# Altium schematic symbol library IlamStuff.SchLib: 12 symbols
Pins are listed as number, name and electrical type; pins without a type are passive.

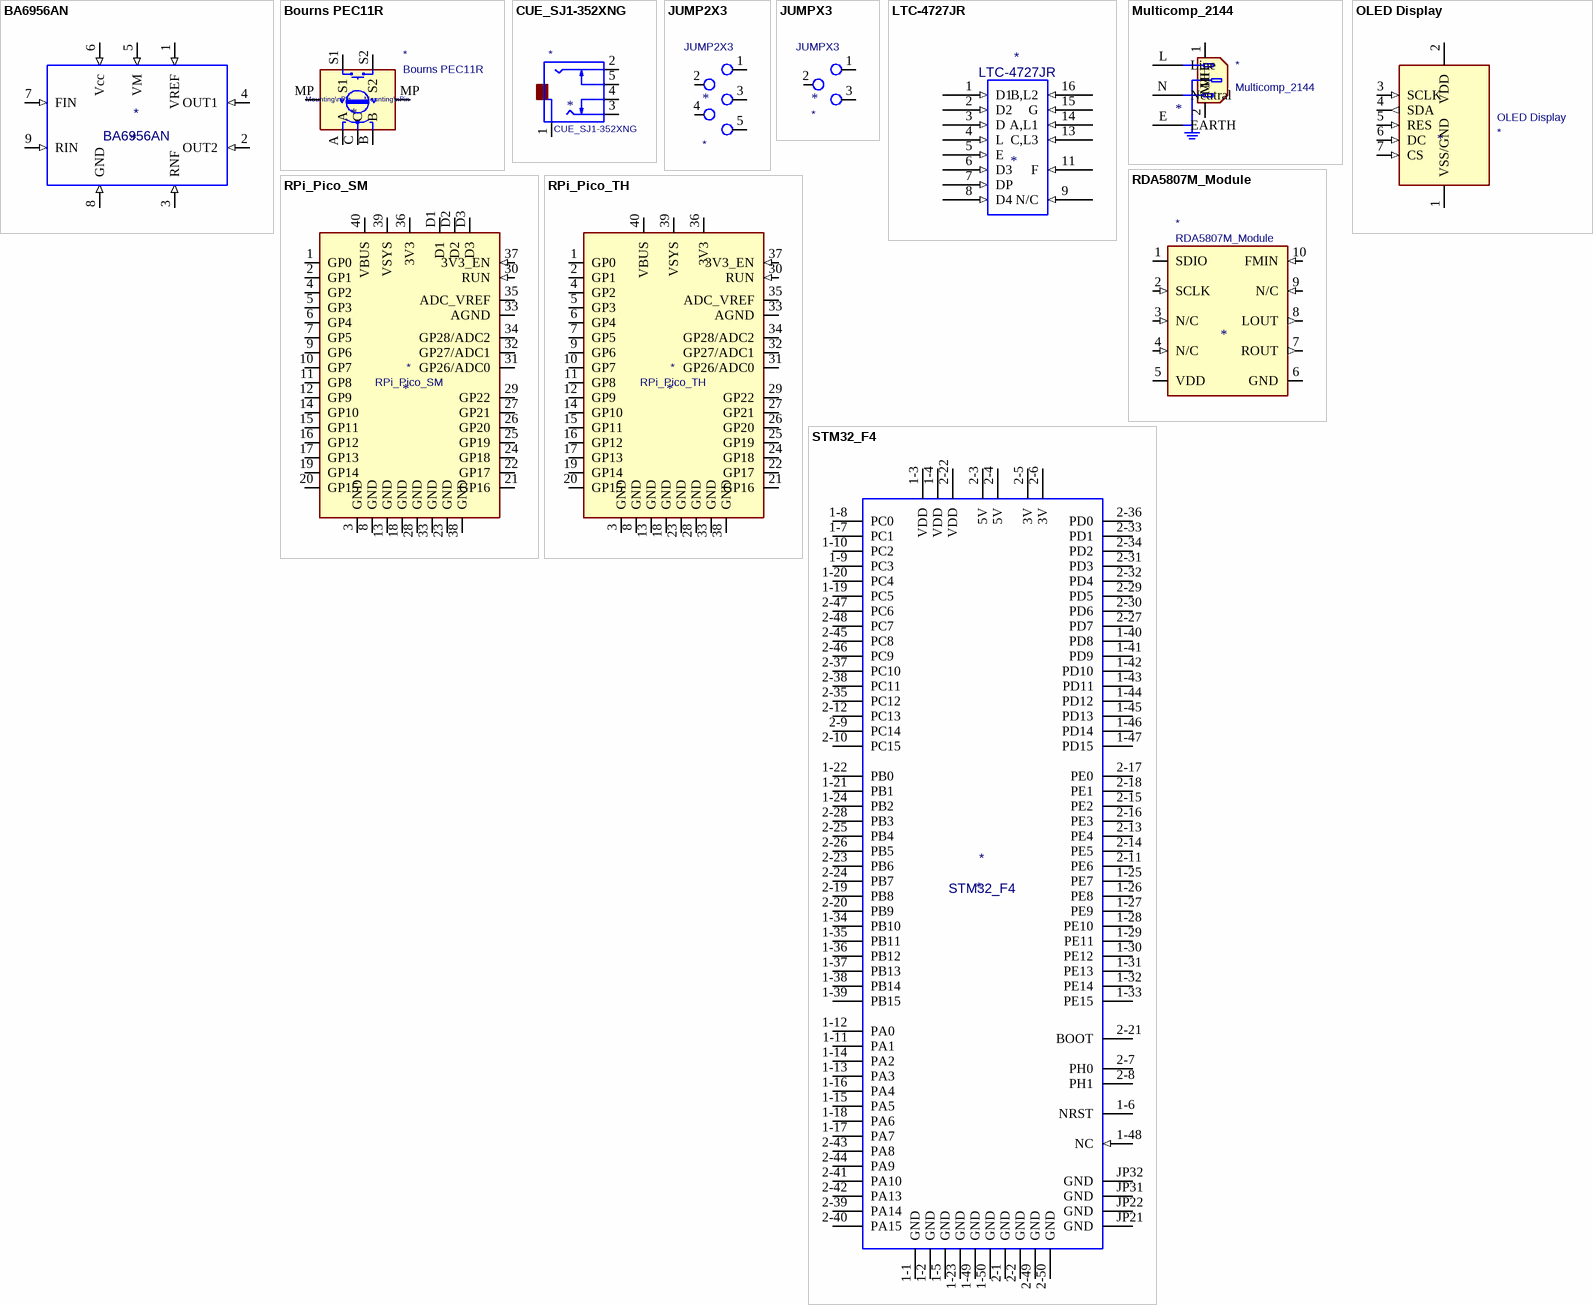
[diagram p0: symbols BA6956AN to STM32_F4]

## BA6956AN
designator *  value BA6956AN
ki_fp_filters: SIP9
pins: 1 VREF (in), 2 OUT2 (in), 3 RNF (in), 4 OUT1 (in), 5 VM (in), 6 Vcc (in), 7 FIN (in), 8 GND (in), 9 RIN (in)

## Bourns PEC11R
designator *  value Bourns PEC11R
Footprint: Rotary_Encoder:RotaryEncoder_Alps_EC12E-Switch_Vertical_H20mm
footprint RotaryEncoder_Alps_EC12E-Switch_Vertical_H20mm
pins: A, B, C, MP, MP, S1, S2
text: Mounting\nPin

## CUE_SJ1-352XNG
designator *  value CUE_SJ1-352XNG
ki_fp_filters: CUE_SJ1-352X
pins: 1 Sleeve, 2 Tip, 3 Tip, 4 Tip_Switch, 5 Ring_Switch

## JUMP2X3
designator *  value JUMP2X3
pins: 1, 2, 3, 4, 5

## JUMPX3
designator *  value JUMPX3
pins: 1, 2, 3

## LTC-4727JR
designator *  value LTC-4727JR
ki_fp_filters: LTC-4727JR
pins: 1 D1 (in), 2 D2 (in), 3 D (in), 4 L (in), 5 E (in), 6 D3 (in), 7 DP (in), 8 D4 (in), 9 N/C (in), 11 F (in), 13 C,L3 (in), 14 A,L1 (in), 15 G (in), 16 B,L2 (in)

## Multicomp_2144
designator *  value Multicomp_2144
Footprint: ECE:Multicomp_2144
footprint Multicomp_2144
pins: 1 MH, 2 MH, E EARTH, L Line (power), N Neutral (power)

## OLED Display
designator *  value OLED Display
pins: 1 VSS/GND (power), 2 VDD (power), 3 SCLK (in), 4 SDA (out), 5 RES (in), 6 DC (in), 7 CS (in)

## RDA5807M_Module
designator *  value RDA5807M_Module
ki_fp_filters: RDA5807M_Module_SM RDA5807M_Module_TH; Footprint: ECE:RDA5807M_Module_TH
footprint RDA5807M_Module_TH
pins: 1 SDIO (io), 2 SCLK (in), 3 N/C (in), 4 N/C (in), 5 VDD (power), 6 GND (power), 7 ROUT (out), 8 LOUT (out), 9 N/C (in), 10 FMIN (in)

## RPi_Pico_SM
designator *  value RPi_Pico_SM
ki_keywords: Raspberry Pi Pico; Footprint: ECE:RPi_Pico_SM; ki_description: Raspberry Pi Pico
footprint RPi_Pico_SM
pins: 1 GP0 (io), 2 GP1 (io), 3 GND (power), 4 GP2 (io), 5 GP3 (io), 6 GP4 (io), 7 GP5 (io), 8 GND (power), 9 GP6 (io), 10 GP7 (io), 11 GP8 (io), 12 GP9 (io), 13 GND (power), 14 GP10 (io), 15 GP11 (io), 16 GP12 (io), 17 GP13 (io), 18 GND (power), 19 GP14 (io), 20 GP15 (io), 21 GP16 (io), 22 GP17 (io), 23 GND (power), 24 GP18 (io), 25 GP19 (io), 26 GP20 (io), 27 GP21 (io), 28 GND (power), 29 GP22 (io), 30 RUN (in), 31 GP26/ADC0 (io), 32 GP27/ADC1 (io), 33 AGND (power), 33 GND (power), 34 GP28/ADC2 (io), 35 ADC_VREF (power), 36 3V3 (power), 37 3V3_EN (in), 38 GND (power), 39 VSYS (power), 40 VBUS (power), D1 (io), D2 (io), D3 (io)

## RPi_Pico_TH
designator *  value RPi_Pico_TH
ki_keywords: Raspberry Pi Pico; Footprint: ECE:RPi_Pico_TH; ki_description: Raspberry Pi Pico
footprint RPi_Pico_TH
pins: 1 GP0 (io), 2 GP1 (io), 3 GND (power), 4 GP2 (io), 5 GP3 (io), 6 GP4 (io), 7 GP5 (io), 8 GND (power), 9 GP6 (io), 10 GP7 (io), 11 GP8 (io), 12 GP9 (io), 13 GND (power), 14 GP10 (io), 15 GP11 (io), 16 GP12 (io), 17 GP13 (io), 18 GND (power), 19 GP14 (io), 20 GP15 (io), 21 GP16 (io), 22 GP17 (io), 23 GND (power), 24 GP18 (io), 25 GP19 (io), 26 GP20 (io), 27 GP21 (io), 28 GND (power), 29 GP22 (io), 30 RUN (in), 31 GP26/ADC0 (io), 32 GP27/ADC1 (io), 33 AGND (power), 33 GND (power), 34 GP28/ADC2 (io), 35 ADC_VREF (power), 36 3V3 (power), 37 3V3_EN (in), 38 GND (power), 39 VSYS (power), 40 VBUS (power)

## STM32_F4
designator *  value STM32_F4
ki_fp_filters: STM32_F4
pins: 1-1 GND, 1-2 GND, 1-3 VDD, 1-4 VDD, 1-5 GND, 1-6 NRST, 1-7 PC1, 1-8 PC0, 1-9 PC3, 1-10 PC2, 1-11 PA1, 1-12 PA0, 1-13 PA3, 1-14 PA2, 1-15 PA5, 1-16 PA4, 1-17 PA7, 1-18 PA6, 1-19 PC5, 1-20 PC4, 1-21 PB1, 1-22 PB0, 1-23 GND, 1-24 PB2, 1-25 PE7, 1-26 PE8, 1-27 PE9, 1-28 PE10, 1-29 PE11, 1-30 PE12, 1-31 PE13, 1-32 PE14, 1-33 PE15, 1-34 PB10, 1-35 PB11, 1-36 PB12, 1-37 PB13, 1-38 PB14, 1-39 PB15, 1-40 PD8, 1-41 PD9, 1-42 PD10, 1-43 PD11, 1-44 PD12, 1-45 PD13, 1-46 PD14, 1-47 PD15, 1-48 NC (in), 1-49 GND, 1-50 GND, 2-1 GND, 2-2 GND, 2-3 5V, 2-4 5V, 2-5 3V, 2-6 3V, 2-7 PH0, 2-8 PH1, 2-9 PC14, 2-10 PC15, 2-11 PE6, 2-12 PC13, 2-13 PE4, 2-14 PE5, 2-15 PE2, 2-16 PE3, 2-17 PE0, 2-18 PE1, 2-19 PB8, 2-20 PB9, 2-21 BOOT, 2-22 VDD, 2-23 PB6, 2-24 PB7, 2-25 PB4, 2-26 PB5, 2-27 PD7, 2-28 PB3, 2-29 PD5, 2-30 PD6, 2-31 PD3, 2-32 PD4, 2-33 PD1, 2-34 PD2, 2-35 PC12, 2-36 PD0, 2-37 PC10, 2-38 PC11, 2-39 PA14, 2-40 PA15, 2-41 PA10, 2-42 PA13, 2-43 PA8, 2-44 PA9, 2-45 PC8, 2-46 PC9, 2-47 PC6, 2-48 PC7, 2-49 GND, 2-50 GND, JP21 GND, JP22 GND, JP31 GND, JP32 GND